# EAGLE library part PINHEAD_1X8_1.27 (library hsk_2012)
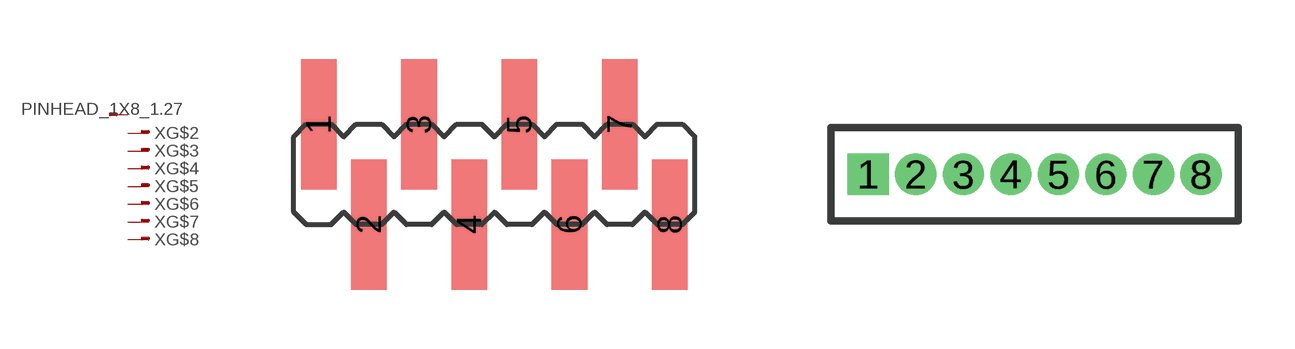
[diagram p39: symbol with the pads of 1X08SMD; footprints 1X08SMD, 1X08M]

Designator prefix X; gates G$1=SINGLE_PAD G$2=CON G$3=CON G$4=CON G$5=CON G$6=CON G$7=CON G$8=CON

## PINHEAD_1X8_1.27_1  [1X08SMD]
1  G$1:1
2  G$2:CON
3  G$3:CON
4  G$4:CON
5  G$5:CON
6  G$6:CON
7  G$7:CON
8  G$8:CON

## PINHEAD_1X8_1.27_THT  [1X08M]
Pads as for 1X08SMD

## Footprint 1X08SMD (pad centres in mm)
PIN HEADER - 2.54 SMD
smd 0.9 x 3.3: 1 -1.27,1.27; 2 0,-1.27; 3 1.27,1.27; 4 2.54,-1.27; 5 3.81,1.27; 6 5.08,-1.27; 7 6.35,1.27; 8 7.62,-1.27

## Footprint 1X08M (pad centres in mm)
PIN HEADER - 2
drill 0.6 pad 1.05 square: 1 -4.445,0
drill 0.6 pad 1.05: 2 -3.175,0; 3 -1.905,0; 4 -0.635,0; 5 0.635,0; 6 1.905,0; 7 3.175,0; 8 4.445,0